# Altium schematic symbol library DAC80502.SchLib: 1 symbol
Pins are listed as number, name and electrical type; pins without a type are passive.

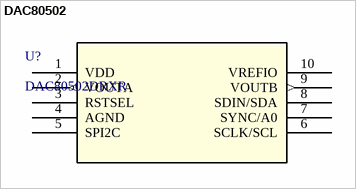
[diagram p0: symbol DAC80502]

## DAC80502
designator U?, comment DAC80502DRXR
Dual-channel, 1-LSB INL, 16-bit, SPI voltage-output digital-to-analog converter (DAC); Built_By: EMA_Matt; Vendor: Texas Instruments; SourceLibrary: TI_2020-07-16; Datasheet: https://www.ti.com/lit/ds/symlink/dac80502.pdf?ts=1594755472964&ref_url=https%253A%252F%252Fwww.ti.com%252Fstore%252Fti%252Fen%252Fp%252Fproduct%252F%253Fp%253DDAC80502DRXR; Copyright: Copyright (C) 2018 Accelerated Designs. All rights reserved; Manufacturer_Part_Number: DAC80502DRXR; RefDes: RefDes; Type: DEV; ComponentLink1Description: Product Page; ComponentLink1URL: https://www.ti.com/product/DAC80502
footprint SON_02DRXR_TEX
footprint SON_02DRXR_TEX-L
footprint SON_02DRXR_TEX-M
pins: 1 VDD (power), 2 VOUTA (out), 3 RSTSEL, 4 AGND, 5 SPI2C, 6 SCLK/SCL, 7 SYNC/A0, 8 SDIN/SDA, 9 VOUTB (out), 10 VREFIO (power)